# EAGLE library part K10P-11XXX-XX (library relay)
Tyco / K10 Series 15A General Purpose
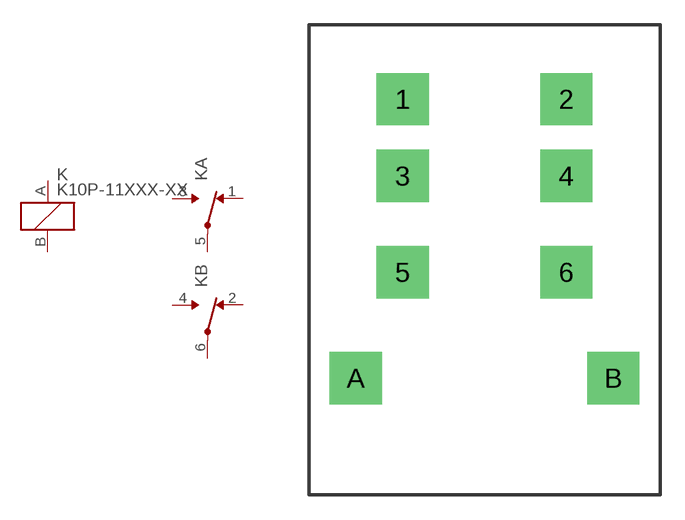
[diagram p53: symbol with the pads of K10-27E489; footprint K10-27E489]

Designator prefix K; gates G$1=K A=U B=U

## K10P-11XXX-XX  [K10-27E489]
1  A:NC  pas
2  B:NC  pas
3  A:NO  pas
4  B:NO  pas
5  A:COM  pas
6  B:COM  pas
A  G$1:1  pas
B  G$1:2  pas

## Footprint K10-27E489 (pad centres in mm)
Tyco / K10 Series - Relay Socket 27E489 Printed Circuit Terminals
drill 2.18 square: 1 -5.005,17.07; 2 5.005,17.07; 3 -5.005,12.37; 4 5.005,12.37; 5 -5.005,6.48; 6 5.005,6.48; A -7.875,0; B 7.875,0